# EAGLE library part OPA678U (library burr-brown)
Wideband Switched-Input Operational Amplifier
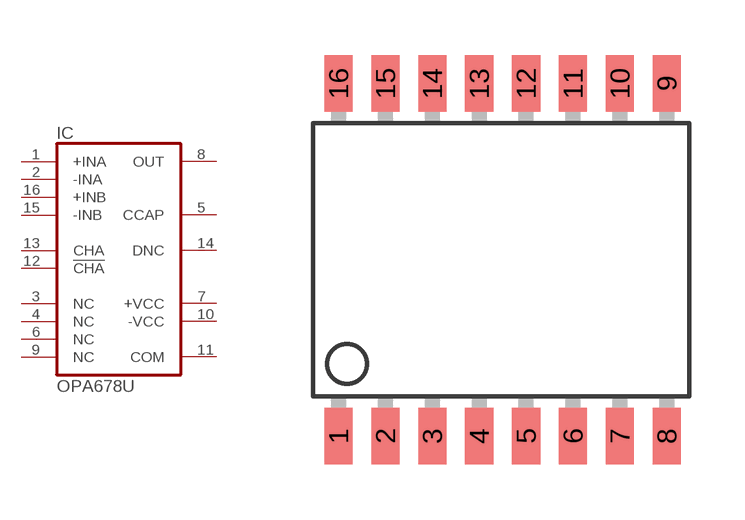
[diagram p156: symbol with the pads of SO16-1; footprint SO16-1]

Designator prefix IC

## OPA678U  [SO16-1]
1  +INA  in
2  -INA  in
3  NC  nc
4  NC  nc
5  CCAP  pas
6  NC  nc
7  +VCC  pwr
8  OUT  out
9  NC  nc
10  -VCC  pwr
11  COM  pwr
12  !CHA  in
13  CHA  in
14  DNC  pas
15  -INB  in
16  +INB  in

## Footprint SO16-1 (pad centres in mm)
smd 0.762 x 1.524: 1 -4.445,-4.775; 2 -3.175,-4.775; 3 -1.905,-4.775; 4 -0.635,-4.775; 5 0.635,-4.775; 6 1.905,-4.775; 7 3.175,-4.775; 8 4.445,-4.775; 9 4.445,4.775; 10 3.175,4.775; 11 1.905,4.775; 12 0.635,4.775; 13 -0.635,4.775; 14 -1.905,4.775; 15 -3.175,4.775; 16 -4.445,4.775